# Altium footprint library Passive.PcbLib: 33 footprints (part 1 of 3)
Each footprint in its own frame and in the unit in brackets; x right, y up, seen from the top. Pads: shape width x height; smd on the part's side, far side on the other; paste and mask are expansions set on the pad; w line width, h text height; cw(c..) or ccw(c..) is an arc to the next point about the centre after c.
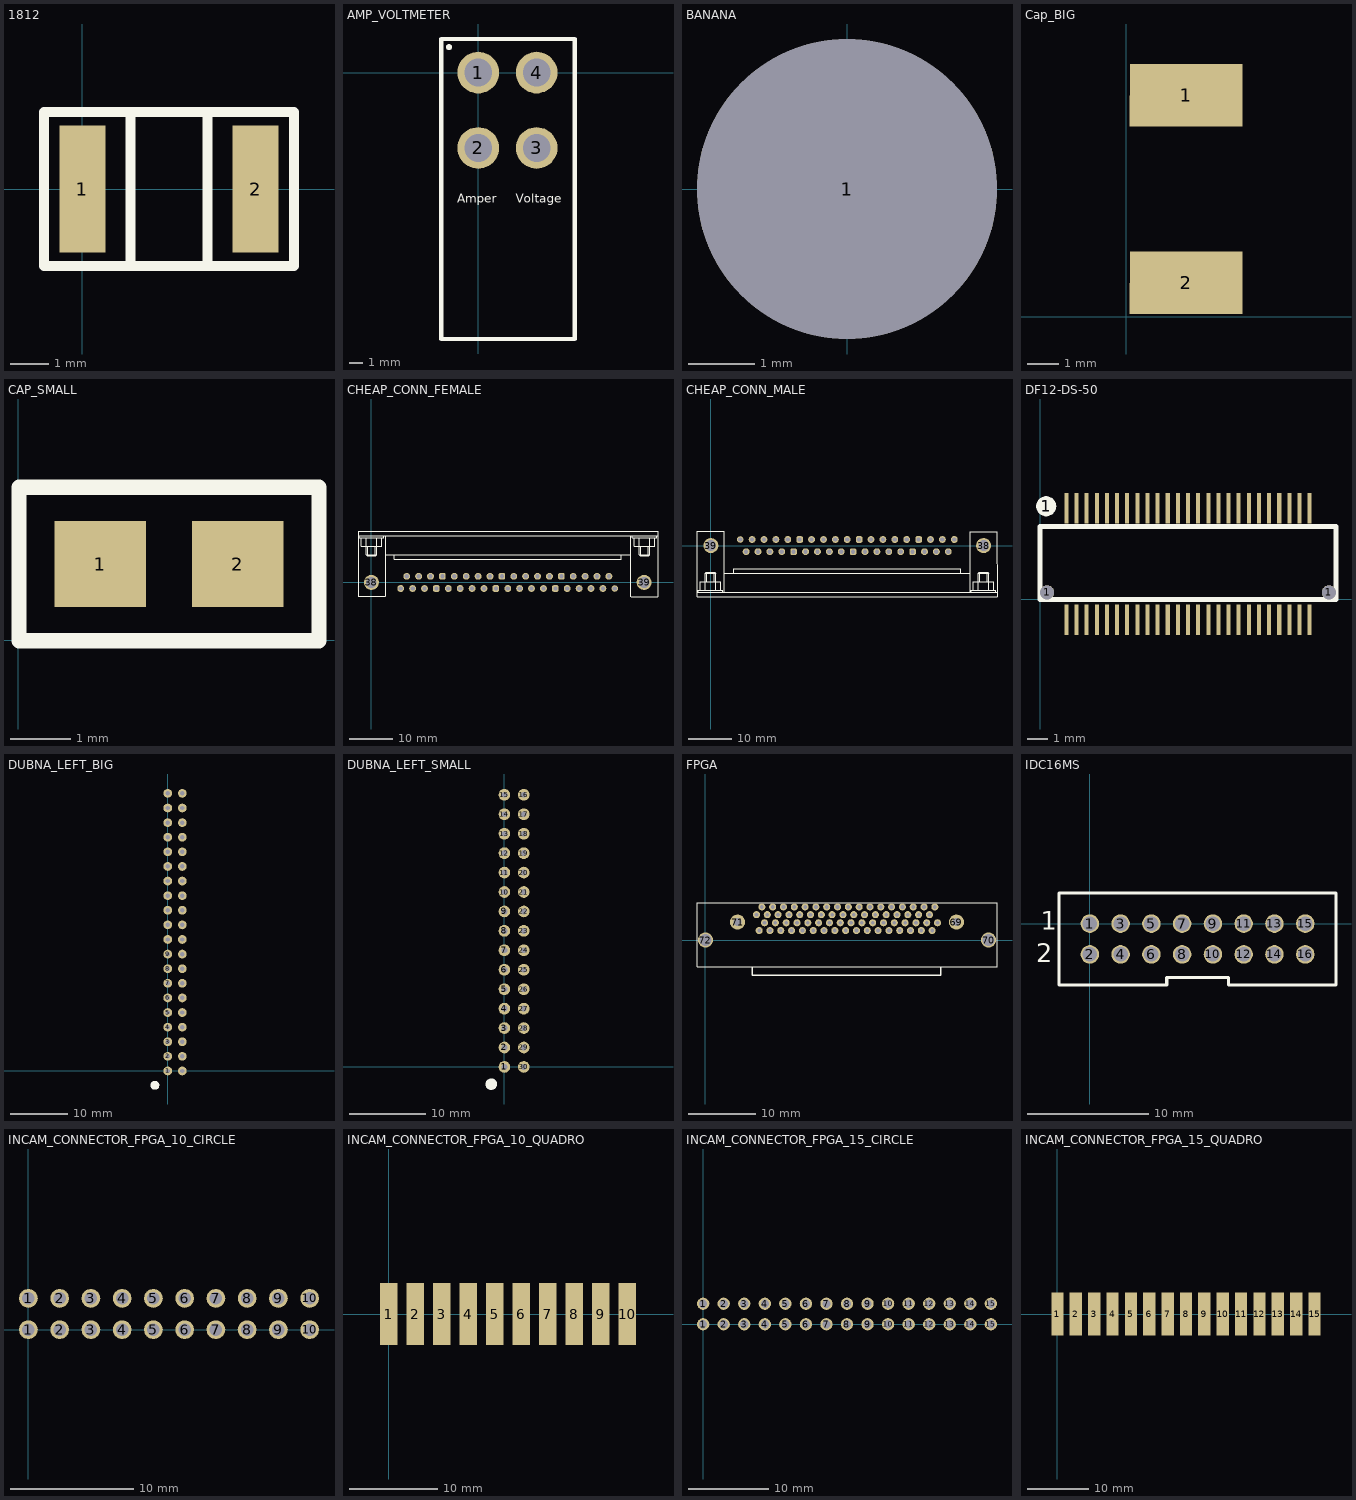
[diagram p0: the footprints below, top view; thin cyan lines are the x and y axes]

## 1812 [mm] "1812"
height 3
pads (2):
  rect 1.2x3.3 smd: 1(0,0) 2(4.5,0)
Top Overlay:
  lines w0.254: 1.25,-2 1.25,2 ; 3.25,-2 3.25,2 ; -1,-2 -1,2 5.5,2 5.5,-2 -1,-2

## AMP_VOLTMETER [mm] "AMP_VOLTMETER"
height 10
pads (4):
  round 3 hole 2: 1(0,0) 2(0,-5.423) 3(4.2,-5.423) 4(4.2,0)
Top Overlay:
  circle w0.254: c-2.108,1.829 r0.092
  lines w0.3: -2.662,-19.173 -2.662,2.417 6.938,2.417 6.938,-19.173 -2.662,-19.173
  text "Voltage" at 2.696,-9.377 h0.63
  text "Amper" at -1.504,-9.377 h0.63

## BANANA [mm] "BANANA"
height 30
pads (1):
  round 4.5 hole 4.5 unplated paste+0 mask+0: 1(0,0)

## Cap_BIG [mm] "FROM_MAX"
height 2.54
pads (2):
  rect 3.6x2 smd: 1(1.905,7.092) 2(1.905,1.092)
3D body: height 2.54, standoff 0, extent 0.003,-0.009 3.807,8.194

## CAP_SMALL [mil] "FROM_MAX"
height 100
pads (2):
  rect 60x55.98 smd: 1(53.71,50) 2(143.71,50)
Top Overlay:
  lines w10: 195.44,-0.2 0.56,-0.2 0.56,100.2 195.44,100.2 ; 196.86,-0.2 196.86,100.2
3D body: height 100, standoff 0, extent 19.71,18.01 177.71,81.99

## CHEAP_CONN_FEMALE [mm] "CHEAP_CONN_FEMALE"
height 10
pads (39):
  round 1.6 hole 1: 1(6.833,-1.422) 2(9.601,-1.422) 3(12.37,-1.422) 5(17.907,-1.422) 6(20.676,-1.422) 7(23.444,-1.422) 8(26.213,-1.422) 10(31.75,-1.422) 11(34.519,-1.422) 12(37.287,-1.422) 13(40.056,-1.422) 15(45.593,-1.422) 16(48.362,-1.422) 17(51.13,-1.422) 18(53.899,-1.422) 20(8.23,1.422) 21(10.998,1.422) 22(13.767,1.422) 24(19.304,1.422) 25(22.073,1.422) 26(24.841,1.422) 27(27.61,1.422) 29(33.147,1.422) 30(35.916,1.422) 31(38.684,1.422) 32(41.453,1.422) 34(46.99,1.422) 35(49.759,1.422) 36(52.527,1.422) 37(55.296,1.422)
  rrect50% 1.524x1.524 hole 0.965: 4(15.138,-1.422) 9(28.981,-1.422) 14(42.824,-1.422) 23(16.535,1.422) 28(30.378,1.422) 33(44.221,1.422)
  round 1.524 hole 0.965: 19(56.667,-1.422)
  round 3.5 hole 2.5: 38(0,0) 39(63.5,0)
Top Overlay:
  lines w0.25: -3.114,10.881 66.724,10.89 ; -3.114,11.906 66.724,11.896 ; -3.114,11.925 -3.106,-3.283 3.193,-3.283 3.191,10.862 ; -2.843,10.9 -2.852,10.433 2.914,10.433 2.92,10.842 ; -2.344,10.433 -2.344,8.401 2.431,8.401 2.431,10.433 ; -1.175,10.433 -1.175,6.471 ; -0.871,6.471 -0.871,8.401 ; 0.958,6.471 0.958,8.401 ; 1.238,10.433 1.238,6.471 ; 2.404,10.874 61.129,10.874 ; 3.172,6.394 60.414,6.433 ; 5.351,6.401 5.351,5.439 58.183,5.439 58.186,6.433 ; 60.425,-3.313 60.425,10.911 ; 60.494,-3.362 66.616,-3.362 66.724,-3.253 66.724,11.876 ; 60.679,10.911 60.679,10.403 66.445,10.403 66.445,10.911 ; 61.187,10.403 61.187,8.371 65.962,8.371 65.962,10.403 ; 62.356,10.403 62.356,6.441 ; 62.66,6.441 62.66,8.371 ; 64.489,6.441 64.489,8.371 ; 64.769,10.403 64.769,6.441 ; -1.175,6.471 1.238,6.471 ; -1.175,6.471 -0.921,6.217 0.984,6.217 1.238,6.471 ; 62.356,6.441 64.769,6.441 ; 62.356,6.441 62.61,6.187 64.515,6.187 64.769,6.441

## CHEAP_CONN_MALE [mm] "CHEAP_CONN_MALE"
height 10
pads (39):
  round 1.524 hole 0.965: 1(6.833,1.422)
  round 1.6 hole 1: 2(9.601,1.422) 3(12.37,1.422) 4(15.138,1.422) 5(17.907,1.422) 7(23.444,1.422) 8(26.213,1.422) 9(28.981,1.422) 10(31.75,1.422) 12(37.287,1.422) 13(40.056,1.422) 14(42.824,1.422) 15(45.593,1.422) 17(51.13,1.422) 18(53.899,1.422) 19(56.667,1.422) 20(8.204,-1.422) 21(10.973,-1.422) 22(13.741,-1.422) 23(16.51,-1.422) 25(22.047,-1.422) 26(24.816,-1.422) 27(27.584,-1.422) 28(30.353,-1.422) 30(35.89,-1.422) 31(38.659,-1.422) 32(41.427,-1.422) 33(44.196,-1.422) 35(49.733,-1.422) 36(52.502,-1.422) 37(55.27,-1.422)
  rrect50% 1.524x1.524 hole 0.965: 6(20.676,1.422) 11(34.519,1.422) 16(48.362,1.422) 24(19.279,-1.422) 29(33.122,-1.422) 34(46.965,-1.422)
  round 3.5 hole 2.5: 38(63.5,0) 39(0,0)
Top Overlay:
  lines w0.25: -3.224,-11.896 66.614,-11.906 ; -3.224,-11.876 -3.224,3.253 -3.116,3.362 3.006,3.362 ; -3.224,-10.89 66.614,-10.881 ; -2.945,-10.911 -2.945,-10.403 2.821,-10.403 2.821,-10.911 ; -2.462,-10.403 -2.462,-8.371 2.313,-8.371 2.313,-10.403 ; -1.269,-10.403 -1.269,-6.441 ; -0.989,-8.371 -0.989,-6.441 ; 0.84,-8.371 0.84,-6.441 ; 1.144,-10.403 1.144,-6.441 ; 2.371,-10.874 61.096,-10.874 ; 3.075,-10.911 3.075,3.313 ; 3.086,-6.433 60.328,-6.394 ; 5.314,-6.433 5.317,-5.439 58.149,-5.439 58.149,-6.401 ; 60.309,-10.862 60.307,3.283 66.606,3.283 66.614,-11.925 ; 60.58,-10.842 60.586,-10.433 66.352,-10.433 66.343,-10.9 ; 61.069,-10.433 61.069,-8.401 65.844,-8.401 65.844,-10.433 ; 62.262,-10.433 62.262,-6.471 ; 62.542,-8.401 62.542,-6.471 ; 64.371,-8.401 64.371,-6.471 ; 64.675,-10.433 64.675,-6.471 ; -1.269,-6.441 1.144,-6.441 ; -1.269,-6.441 -1.015,-6.187 0.89,-6.187 1.144,-6.441 ; 62.262,-6.471 64.675,-6.471 ; 62.262,-6.471 62.516,-6.217 64.421,-6.217 64.675,-6.471

## DF12-DS-50 [mm]
pads (53):
  round 1 on Top Overlay: 1(0.3,4.6)
  round 0.7 hole 0.7 unplated: 1(0.35,0.35) 1(14.25,0.35)
  rect 0.2x1.5 smd: 1(1.3,4.5) 2(1.3,-1) 3(1.8,4.5) 4(1.8,-1) 5(2.3,4.5) 6(2.3,-1) 7(2.8,4.5) 8(2.8,-1) 9(3.3,4.5) 10(3.3,-1) 11(3.8,4.5) 12(3.8,-1) 13(4.3,4.5) 14(4.3,-1) 15(4.8,4.5) 16(4.8,-1) 17(5.3,4.5) 18(5.3,-1) 19(5.8,4.5) 20(5.8,-1) 21(6.3,4.5) 22(6.3,-1) 23(6.8,4.5) 24(6.8,-1) 25(7.3,4.5) 26(7.3,-1) 27(7.8,4.5) 28(7.8,-1) 29(8.3,4.5) 30(8.3,-1) 31(8.8,4.5) 32(8.8,-1) 33(9.3,4.5) 34(9.3,-1) 35(9.8,4.5) 36(9.8,-1) 37(10.3,4.5) 38(10.3,-1) 39(10.8,4.5) 40(10.8,-1) 41(11.3,4.5) 42(11.3,-1) 43(11.8,4.5) 44(11.8,-1) 45(12.3,4.5) 46(12.3,-1) 47(12.8,4.5) 48(12.8,-1) 49(13.3,4.5) 50(13.3,-1)
Top Overlay:
  lines w0.254: 0,0 0,3.6 14.6,3.6 14.6,0 0,0

## DUBNA_LEFT_BIG [mil] "DUBNA_LEFT_BIG"
height 250
pads (40):
  round 60 hole 30: 1(0,0) 2(0,100) 3(0,200) 4(0,300) 5(0,400) 6(0,500) 7(0,600) 8(0,700) 9(0,800) 10(0,900) 11(0,1000) 12(0,1100) 13(0,1200) 14(0,1300) 15(0,1400) 16(0,1500) 17(0,1600) 18(0,1700) 19(0,1800) 20(0,1900) 21(100,1900) 22(100,1800) 23(100,1700) 24(100,1600) 25(100,1500) 26(100,1400) 27(100,1300) 28(100,1200) 29(100,1100) 30(100,1000) 31(100,900) 32(100,800) 33(100,700) 34(100,600) 35(100,500) 36(100,400) 37(100,300) 38(100,200) 39(100,100) 40(100,0)
Top Overlay:
  circle w10: c-80.87,-98.43 r7.71
  circle w10: c-87.58,-98.43 r6.71
  circle w10: c-87.58,-98.43 r15.81
  circle w10: c-87.58,-98.43 r25

## DUBNA_LEFT_SMALL [mil] "DUBNA_LEFT_SMALL"
height 250
pads (30):
  round 60 hole 30: 1(0,0) 2(0,100) 3(0,200) 4(0,300) 5(0,400) 6(0,500) 7(0,600) 8(0,700) 9(0,800) 10(0,900) 11(0,1000) 12(0,1100) 13(0,1200) 14(0,1300) 15(0,1400) 16(100,1400) 17(100,1300) 18(100,1200) 19(100,1100) 20(100,1000) 21(100,900) 22(100,800) 23(100,700) 24(100,600) 25(100,500) 26(100,400) 27(100,300) 28(100,200) 29(100,100) 30(100,0)
Top Overlay:
  circle w10: c-67.9,-88.58 r25
  circle w10: c-67.9,-88.58 r15.81
  circle w10: c-67.9,-88.58 r6.71
  circle w10: c-61.19,-88.58 r7.71

## FPGA [mm] "FPGA Connector"
height 2.54
pads (72):
  round 1.05 hole 0.55: 1(33.95,4.9) 2(33.15,3.75) 3(32.35,4.9) 4(31.55,3.75) 5(30.75,4.9) 6(29.95,3.75) 7(29.15,4.9) 8(28.35,3.75) 9(27.55,4.9) 10(26.75,3.75) 11(25.95,4.9) 12(25.15,3.75) 13(24.35,4.9) 14(23.55,3.75) 15(22.75,4.9) 16(21.95,3.75) 17(21.15,4.9) 18(20.35,3.75) 19(19.55,4.9) 20(18.75,3.75) 21(17.95,4.9) 22(17.15,3.75) 23(16.35,4.9) 24(15.55,3.75) 25(14.75,4.9) 26(13.95,3.75) 27(13.15,4.9) 28(12.35,3.75) 29(11.55,4.9) 30(10.75,3.75) 31(9.95,4.9) 32(9.15,3.75) 33(8.35,4.9) 34(7.55,3.75) 35(34.35,2.55) 36(33.55,1.4) 37(32.75,2.55) 38(31.95,1.4) 39(31.15,2.55) 40(30.35,1.4) 41(29.55,2.55) 42(28.75,1.4) 43(27.95,2.55) 44(27.15,1.4) 45(26.35,2.55) 46(25.55,1.4) 47(24.75,2.55) 48(23.95,1.4) 49(23.15,2.55) 50(22.35,1.4) 51(21.55,2.55) 52(20.75,1.4) 53(19.95,2.55) 54(19.15,1.4) 55(18.35,2.55) 56(17.55,1.4) 57(16.75,2.55) 58(15.95,1.4) 59(15.15,2.55) 60(14.35,1.4) 61(13.55,2.55) 62(12.75,1.4) 63(11.95,2.55) 64(11.15,1.4) 65(10.35,2.55) 66(9.55,1.4) 67(8.75,2.55) 68(7.95,1.4)
  round 2.25 hole 1.2: 69(37.15,2.65) 71(4.75,2.65)
  round 2.25 hole 1.75: 70(41.9,0) 72(0,0)
Top Overlay:
  lines w0.15: -1.25,-3.95 43.15,-3.95 43.15,5.55 10.85,5.55 -1.25,5.55 -1.25,-3.95
  lines w0.22: 6.95,-3.95 6.95,-5.25 34.85,-5.25 34.85,-3.95

## IDC16MS [mil]
pads (16):
  round 60 hole 47.24: 1(0,0) 2(0,-100) 3(100,0) 4(100,-100) 5(200,0) 6(200,-100) 7(300,0) 8(300,-100) 9(400,0) 10(400,-100) 11(500,0) 12(500,-100) 13(600,0) 14(600,-100) 15(700,0) 16(700,-100)
Top Overlay:
  lines w10: -100,-200 250,-200 250,-175 450,-175 450,-200 800,-200 800,100 -100,100 -100,-200
  text "2" at -175,-125 h60
  text "1" at -160,-20 h60

## INCAM_CONNECTOR_FPGA_10_CIRCLE [mil]
pads (20):
  round 60 hole 39.37: 1(0,0) 1(0,100) 2(100,0) 2(100,100) 3(200,100) 3(200,0) 4(300,0) 4(300,100) 5(400,0) 5(400,100) 6(500,0) 6(500,100) 7(600,0) 7(600,100) 8(700,0) 8(700,100) 9(800,0) 9(800,100) 10(900,0) 10(900,100)

## INCAM_CONNECTOR_FPGA_10_QUADRO [mm]
pads (10):
  rect 2x7 smd: 1(0,0) 2(3,0) 3(6,0) 4(9,0) 5(12,0) 6(15,0) 7(18,0) 8(21,0) 9(24,0) 10(27,0)

## INCAM_CONNECTOR_FPGA_15_CIRCLE [mil]
pads (30):
  round 60 hole 39.37: 1(0,0) 1(0,100) 2(100,0) 2(100,100) 3(200,100) 3(200,0) 4(300,0) 4(300,100) 5(400,0) 5(400,100) 6(500,0) 6(500,100) 7(600,0) 7(600,100) 8(700,0) 8(700,100) 9(800,0) 9(800,100) 10(900,0) 10(900,100) 11(1000,0) 11(1000,100) 12(1100,0) 12(1100,100) 13(1200,0) 13(1200,100) 14(1300,0) 14(1300,100) 15(1400,0) 15(1400,100)

## INCAM_CONNECTOR_FPGA_15_QUADRO [mm]
pads (15):
  rect 2x7 smd: 1(0,0) 2(3,0) 3(6,0) 4(9,0) 5(12,0) 6(15,0) 7(18,0) 8(21,0) 9(24,0) 10(27,0) 11(30,0) 12(33,0) 13(36,0) 14(39,0) 15(42,0)